# EAGLE library part STM32H753BIT6 (library Public)
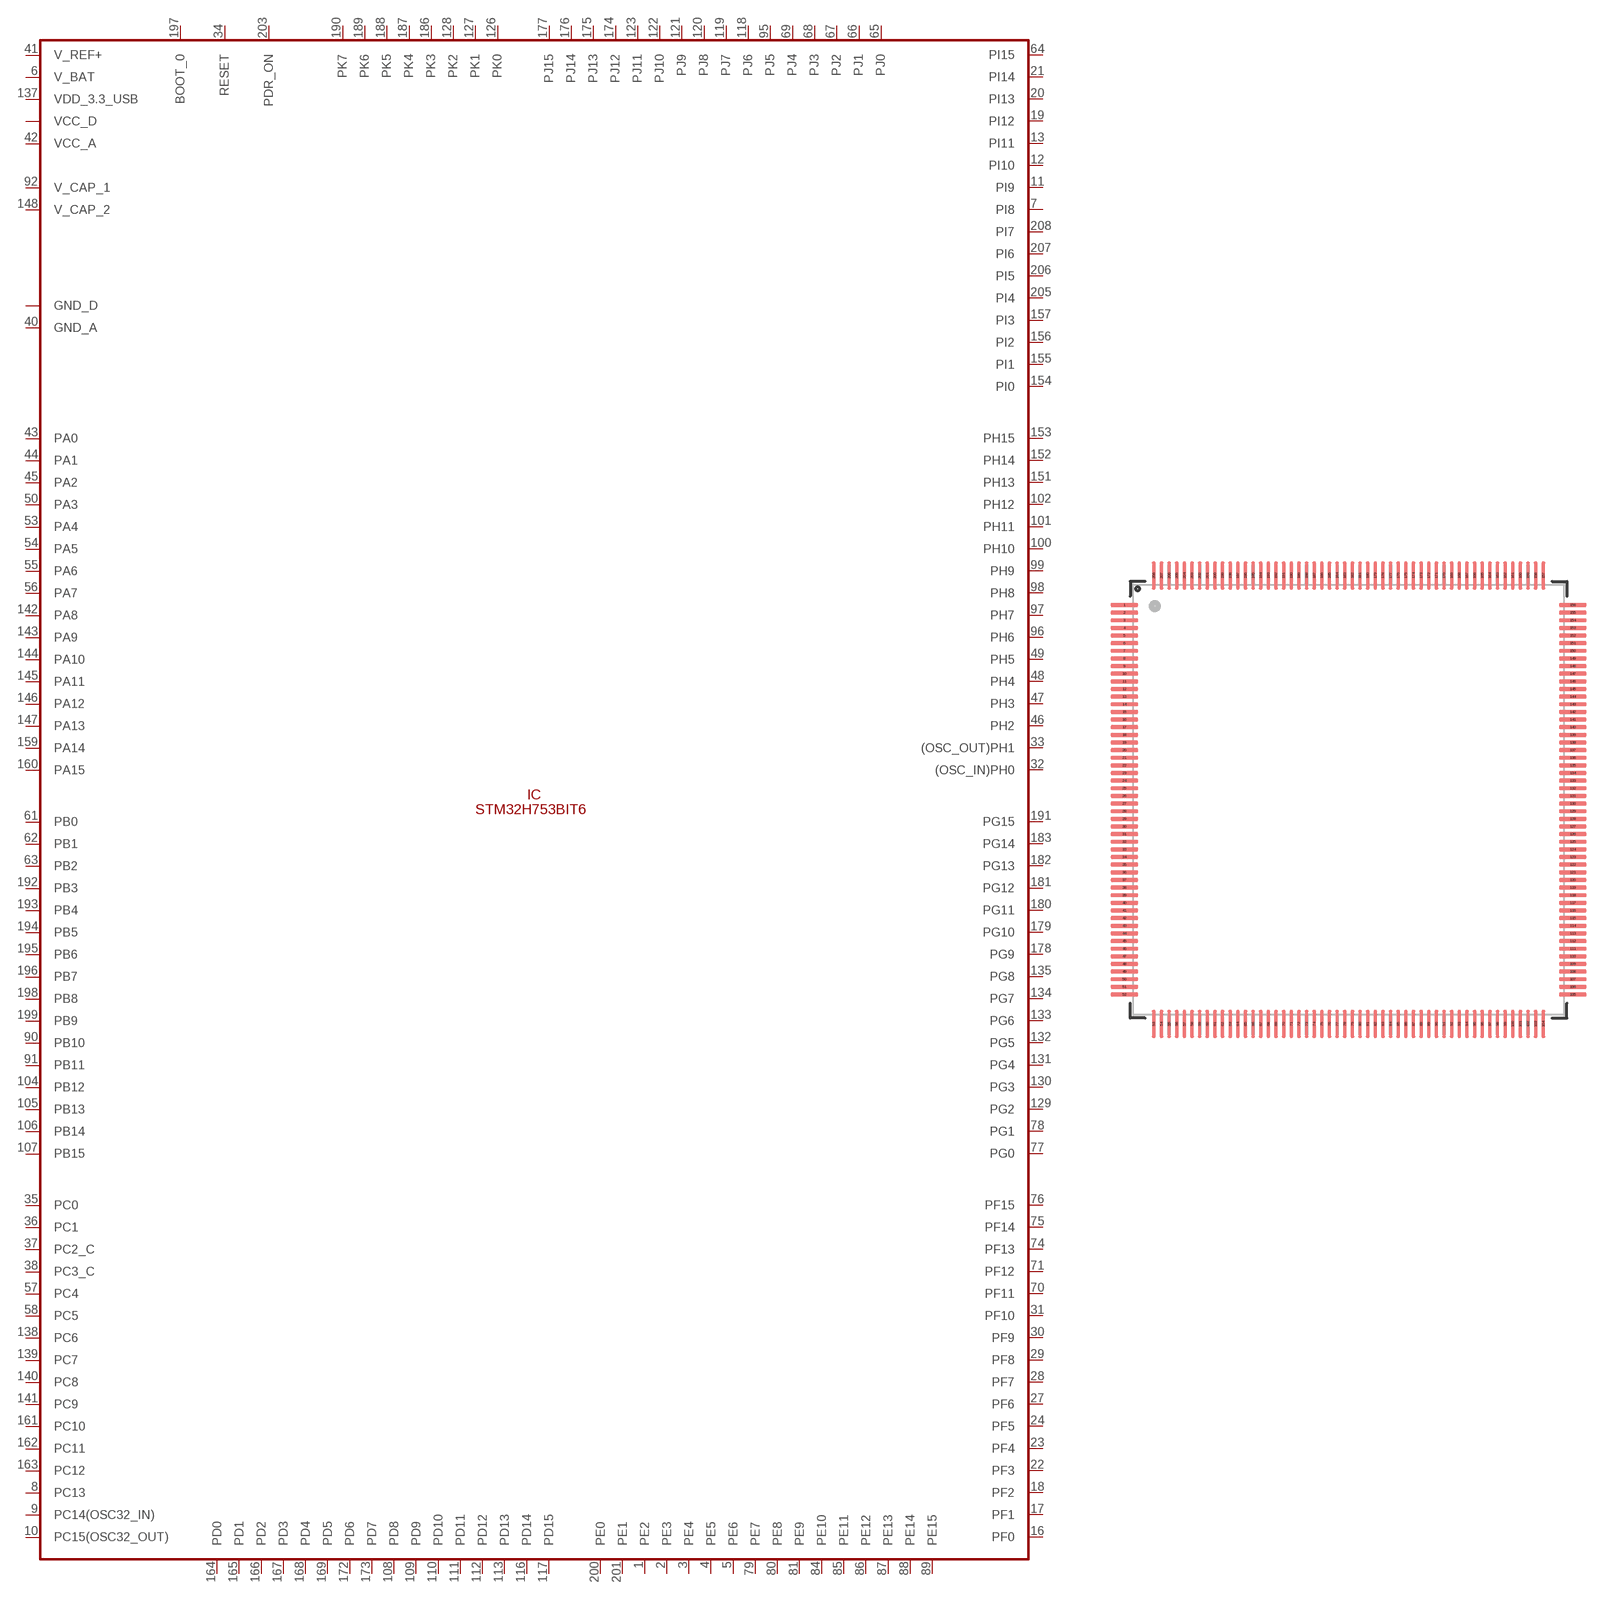
[diagram p43: symbol with the pads of LQFP208-0.5; footprint LQFP208-0.5]

Designator prefix IC

## STM32H753BIT6  [LQFP208-0.5]
1  PE2
2  PE3
3  PE4
4  PE5
5  PE6
6  V_BAT
7  PI8
8  PC13
9  PC14(OSC32_IN)
10  PC15(OSC32_OUT)
11  PI9
12  PI10
13  PI11
14  GND_D
15  VCC_D
16  PF0
17  PF1
18  PF2
19  PI12
20  PI13
21  PI14
22  PF3
23  PF4
24  PF5
25  GND_D
26  VCC_D
27  PF6
28  PF7
29  PF8
30  PF9
31  PF10
32  (OSC_IN)PH0
33  (OSC_OUT)PH1
34  RESET
35  PC0
36  PC1
37  PC2_C
38  PC3_C
39  VCC_D
40  GND_A
41  V_REF+
42  VCC_A
43  PA0
44  PA1
45  PA2
46  PH2
47  PH3
48  PH4
49  PH5
50  PA3
51  GND_D
52  VCC_D
53  PA4
54  PA5
55  PA6
56  PA7
57  PC4
58  PC5
59  VCC_D
60  GND_D
61  PB0
62  PB1
63  PB2
64  PI15
65  PJ0
66  PJ1
67  PJ2
68  PJ3
69  PJ4
70  PF11
71  PF12
72  GND_D
73  VCC_D
74  PF13
75  PF14
76  PF15
77  PG0
78  PG1
79  PE7
80  PE8
81  PE9
82  GND_D
83  VCC_D
84  PE10
85  PE11
86  PE12
87  PE13
88  PE14
89  PE15
90  PB10
91  PB11
92  V_CAP_1
93  GND_D
94  VCC_D
95  PJ5
96  PH6
97  PH7
98  PH8
99  PH9
100  PH10
101  PH11
102  PH12
103  VCC_D
104  PB12
105  PB13
106  PB14
107  PB15
108  PD8
109  PD9
110  PD10
111  PD11
112  PD12
113  PD13
114  GND_D
115  VCC_D
116  PD14
117  PD15
118  PJ6
119  PJ7
120  PJ8
121  PJ9
122  PJ10
123  PJ11
124  VCC_D
125  GND_D
126  PK0
127  PK1
128  PK2
129  PG2
130  PG3
131  PG4
132  PG5
133  PG6
134  PG7
135  PG8
136  GND_D
137  VDD_3.3_USB
138  PC6
139  PC7
140  PC8
141  PC9
142  PA8
143  PA9
144  PA10
145  PA11
146  PA12
147  PA13
148  V_CAP_2
149  GND_D
150  VCC_D
151  PH13
152  PH14
153  PH15
154  PI0
155  PI1
156  PI2
157  PI3
158  VCC_D
159  PA14
160  PA15
161  PC10
162  PC11
163  PC12
164  PD0
165  PD1
166  PD2
167  PD3
168  PD4
169  PD5
170  GND_D
171  VCC_D
172  PD6
173  PD7
174  PJ12
175  PJ13
176  PJ14
177  PJ15
178  PG9
179  PG10
180  PG11
181  PG12
182  PG13
183  PG14
184  GND_D
185  VCC_D
186  PK3
187  PK4
188  PK5
189  PK6
190  PK7
191  PG15
192  PB3
193  PB4
194  PB5
195  PB6
196  PB7
197  BOOT_0
198  PB8
199  PB9
200  PE0
201  PE1
202  GND_D
203  PDR_ON
204  VCC_D
205  PI4
206  PI5
207  PI6
208  PI7

## Footprint LQFP208-0.5 (pad centres in mm)
smd 1.8 x 0.25: 1 -14.68,12.75; 2 -14.68,12.25; 3 -14.68,11.75; 4 -14.68,11.25; 5 -14.68,10.75; 6 -14.68,10.25; 7 -14.68,9.75; 8 -14.68,9.25; 9 -14.68,8.75; 10 -14.68,8.25; 11 -14.68,7.75; 12 -14.68,7.25; 13 -14.68,6.75; 14 -14.68,6.25; 15 -14.68,5.75; 16 -14.68,5.25; 17 -14.68,4.75; 18 -14.68,4.25; 19 -14.68,3.75; 20 -14.68,3.25; 21 -14.68,2.75; 22 -14.68,2.25; 23 -14.68,1.75; 24 -14.68,1.25; 25 -14.68,0.75; 26 -14.68,0.25; 27 -14.68,-0.25; 28 -14.68,-0.75; 29 -14.68,-1.25; 30 -14.68,-1.75; 31 -14.68,-2.25; 32 -14.68,-2.75; 33 -14.68,-3.25; 34 -14.68,-3.75; 35 -14.68,-4.25; 36 -14.68,-4.75; 37 -14.68,-5.25; 38 -14.68,-5.75; 39 -14.68,-6.25; 40 -14.68,-6.75; 41 -14.68,-7.25; 42 -14.68,-7.75; 43 -14.68,-8.25; 44 -14.68,-8.75; 45 -14.68,-9.25; 46 -14.68,-9.75; 47 -14.68,-10.25; 48 -14.68,-10.75; 49 -14.68,-11.25; 50 -14.68,-11.75; 51 -14.68,-12.25; 52 -14.68,-12.75; 105 14.68,-12.75; 106 14.68,-12.25; 107 14.68,-11.75; 108 14.68,-11.25; 109 14.68,-10.75; 110 14.68,-10.25; 111 14.68,-9.75; 112 14.68,-9.25; 113 14.68,-8.75; 114 14.68,-8.25; 115 14.68,-7.75; 116 14.68,-7.25; 117 14.68,-6.75; 118 14.68,-6.25; 119 14.68,-5.75; 120 14.68,-5.25; 121 14.68,-4.75; 122 14.68,-4.25; 123 14.68,-3.75; 124 14.68,-3.25; 125 14.68,-2.75; 126 14.68,-2.25; 127 14.68,-1.75; 128 14.68,-1.25; 129 14.68,-0.75; 130 14.68,-0.25; 131 14.68,0.25; 132 14.68,0.75; 133 14.68,1.25; 134 14.68,1.75; 135 14.68,2.25; 136 14.68,2.75; 137 14.68,3.25; 138 14.68,3.75; 139 14.68,4.25; 140 14.68,4.75; 141 14.68,5.25; 142 14.68,5.75; 143 14.68,6.25; 144 14.68,6.75; 145 14.68,7.25; 146 14.68,7.75; 147 14.68,8.25; 148 14.68,8.75; 149 14.68,9.25; 150 14.68,9.75; 151 14.68,10.25; 152 14.68,10.75; 153 14.68,11.25; 154 14.68,11.75; 155 14.68,12.25; 156 14.68,12.75
smd 0.25 x 1.8: 53 -12.75,-14.68; 54 -12.25,-14.68; 55 -11.75,-14.68; 56 -11.25,-14.68; 57 -10.75,-14.68; 58 -10.25,-14.68; 59 -9.75,-14.68; 60 -9.25,-14.68; 61 -8.75,-14.68; 62 -8.25,-14.68; 63 -7.75,-14.68; 64 -7.25,-14.68; 65 -6.75,-14.68; 66 -6.25,-14.68; 67 -5.75,-14.68; 68 -5.25,-14.68; 69 -4.75,-14.68; 70 -4.25,-14.68; 71 -3.75,-14.68; 72 -3.25,-14.68; 73 -2.75,-14.68; 74 -2.25,-14.68; 75 -1.75,-14.68; 76 -1.25,-14.68; 77 -0.75,-14.68; 78 -0.25,-14.68; 79 0.25,-14.68; 80 0.75,-14.68; 81 1.25,-14.68; 82 1.75,-14.68; 83 2.25,-14.68; 84 2.75,-14.68; 85 3.25,-14.68; 86 3.75,-14.68; 87 4.25,-14.68; 88 4.75,-14.68; 89 5.25,-14.68; 90 5.75,-14.68; 91 6.25,-14.68; 92 6.75,-14.68; 93 7.25,-14.68; 94 7.75,-14.68; 95 8.25,-14.68; 96 8.75,-14.68; 97 9.25,-14.68; 98 9.75,-14.68; 99 10.25,-14.68; 100 10.75,-14.68; 101 11.25,-14.68; 102 11.75,-14.68; 103 12.25,-14.68; 104 12.75,-14.68; 157 12.75,14.68; 158 12.25,14.68; 159 11.75,14.68; 160 11.25,14.68; 161 10.75,14.68; 162 10.25,14.68; 163 9.75,14.68; 164 9.25,14.68; 165 8.75,14.68; 166 8.25,14.68; 167 7.75,14.68; 168 7.25,14.68; 169 6.75,14.68; 170 6.25,14.68; 171 5.75,14.68; 172 5.25,14.68; 173 4.75,14.68; 174 4.25,14.68; 175 3.75,14.68; 176 3.25,14.68; 177 2.75,14.68; 178 2.25,14.68; 179 1.75,14.68; 180 1.25,14.68; 181 0.75,14.68; 182 0.25,14.68; 183 -0.25,14.68; 184 -0.75,14.68; 185 -1.25,14.68; 186 -1.75,14.68; 187 -2.25,14.68; 188 -2.75,14.68; 189 -3.25,14.68; 190 -3.75,14.68; 191 -4.25,14.68; 192 -4.75,14.68; 193 -5.25,14.68; 194 -5.75,14.68; 195 -6.25,14.68; 196 -6.75,14.68; 197 -7.25,14.68; 198 -7.75,14.68; 199 -8.25,14.68; 200 -8.75,14.68; 201 -9.25,14.68; 202 -9.75,14.68; 203 -10.25,14.68; 204 -10.75,14.68; 205 -11.25,14.68; 206 -11.75,14.68; 207 -12.25,14.68; 208 -12.75,14.68